# Altium schematic symbol library Ferrite_Bead_0805.SchLib: 2 symbols
Pins are listed as number, name and electrical type; pins without a type are passive.

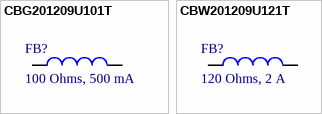
[diagram p0: symbols CBG201209U101T to CBW201209U121T]

## CBG201209U101T
designator FB?, comment 100 Ohms, 500 mA
Ferrite, 0805, 100 Ohms, 500 mA; Manufacturer: FH (Guangdong Fenghua Advanced Tech); Manufacturer Part Number: CBG201209U101T; Tolerance: +/-25%; Maximum DC Current: 500 mA; Maximum DC Resistance: 180 mOhms; Test Frequency: 100 MHz; Packaging: Tape and Reel; Supplier 1 URL: N/A; Supplier 2 URL: N/A; Supplier 3 URL: https://www.thegioiic.com/cbg201209u101t-ferrite-beads-100-ohm-0805; Impedance: 100 Ohms; Value: 100 Ohms, 500 mA; LCSC Part #: C74480; ComponentLink1Description: Datasheet; ComponentLink1URL: https://datasheet.lcsc.com/lcsc/2304140030_FH--Guangdong-Fenghua-Advanced-Tech-CBG201209U101T_C74480.pdf; Mount: SMD/SMT; Operating Temperature Max: 105°C; Operating Temperature Min: -55°C; Supplier 1: Mouser; Supplier 1 Part Number: N/A; Supplier 2: Digi-Key; Supplier 2 Part Number: N/A; Supplier 3: thegioiic; Supplier 3 Part Number: CBG201209U101T; Package / Case: 0805
footprint FER_0805
pins: 1, 2

## CBW201209U121T
designator FB?, comment 120 Ohms, 2 A
Ferrite, 0805, 120 Ohms, 2 A; Manufacturer: FH (Guangdong Fenghua Advanced Tech); Manufacturer Part Number: CBW201209U121T; Tolerance: +/-25%; Maximum DC Current: 2 A; Maximum DC Resistance: 100 mOhms; Test Frequency: 100 MHz; Packaging: Tape and Reel; Supplier 1 URL: N/A; Supplier 2 URL: N/A; Supplier 3 URL: https://www.thegioiic.com/cbw201209u121t-ferrite-beads-2a-120-ohm-0805; Impedance: 120 Ohms; Value: 120 Ohms, 2 A; LCSC Part #: C139186; ComponentLink1Description: Datasheet; ComponentLink1URL: https://datasheet.lcsc.com/lcsc/2304140030_FH--Guangdong-Fenghua-Advanced-Tech-CBW201209U121T_C139186.pdf; Mount: SMD/SMT; Operating Temperature Max: 105°C; Operating Temperature Min: -55°C; Supplier 1: Mouser; Supplier 1 Part Number: N/A; Supplier 2: Digi-Key; Supplier 2 Part Number: N/A; Supplier 3: thegioiic; Supplier 3 Part Number: CBW201209U121T; Package / Case: 0805
footprint FER_0805
pins: 1, 2